# EAGLE library part ADAFRUIT_*555 (library SECTION B)
TIMER Changed DIP package to have round (not oval) pin pads http://www.ladyada.net/library/pcb/eaglelibrary.html
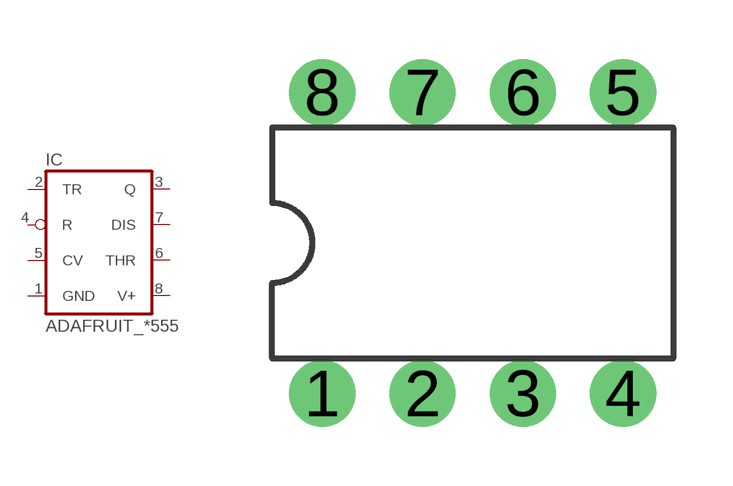
[diagram p0: symbol with the pads of ADAFRUIT_DIL08-ROUND; footprint ADAFRUIT_DIL08-ROUND]

Designator prefix IC

## ADAFRUIT_555N, ADAFRUIT_LM555N, ADAFRUIT_NE555N, ADAFRUIT_SE555N, ADAFRUIT_UA555N  [ADAFRUIT_DIL08-ROUND]
1  GND  pwr
2  TR  in
3  Q  out
4  R  in
5  CV  in
6  THR  in
7  DIS  in
8  V+  pwr

## Footprint ADAFRUIT_DIL08-ROUND (pad centres in mm)
Dual In Line Package
drill 0.813 pad 1.676: 1 -3.81,-3.81; 2 -1.27,-3.81; 3 1.27,-3.81; 4 3.81,-3.81; 5 3.81,3.81; 6 1.27,3.81; 7 -1.27,3.81; 8 -3.81,3.81